# EAGLE library part DS1307 (library UNIT_Biblioteca_Modulos)
DS1307 AT24C32 Tiempo Real RTC Source: Datasheet SKU: Propietario: UNIT Electronics Desarrollador: Alberto Villanueva
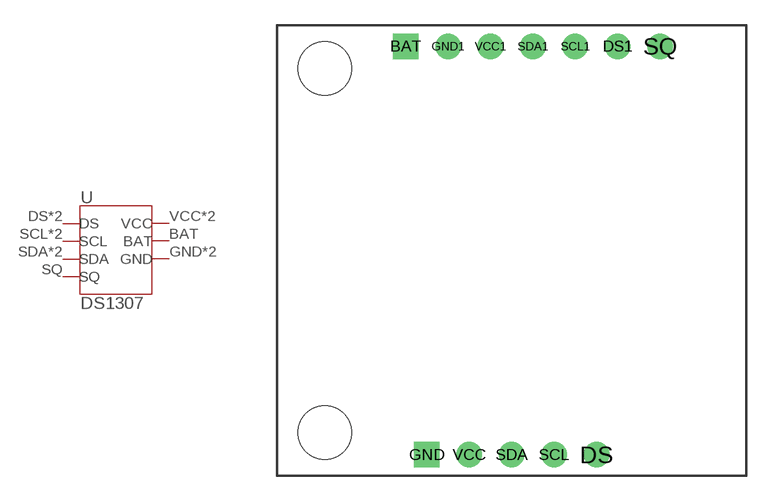
[diagram p18: symbol with the pads of DS1307; footprint DS1307]

Designator prefix U

## DS1307 (CLASS: Modules; DESCRIPTION: DS1307 AT24C32 Tiempo Real RTC; MANUFACTURER_PART_NUMBER: HW-111; VENDOR_PART_NUMBER: AR0379; VENDOR_PRICE-STOCK: https://uelectronics.com/producto/ds1307-at24c32-tiempo-real-rtc/)  [DS1307]
BAT  BAT
DS  DS
DS1  DS
GND  GND
GND1  GND
SCL  SCL
SCL1  SCL
SDA  SDA
SDA1  SDA
SQ  SQ
VCC  VCC
VCC1  VCC

## Footprint DS1307 (pad centres in mm)
drill 1.02 square: BAT -6.35,12.235; GND -5.08,-12.235
drill 1.02: DS 5.08,-12.235; DS1 6.35,12.235; GND1 -3.81,12.235; SCL 2.54,-12.235; SCL1 3.81,12.235; SDA 0,-12.235; SDA1 1.27,12.235; SQ 8.89,12.235; VCC -2.54,-12.235; VCC1 -1.27,12.235
hole 3.2 at -11.19,10.905
hole 3.2 at -11.19,-10.905